# EAGLE library part KLEMME_2-3 (library e-klemmen)
Klemme 2 3
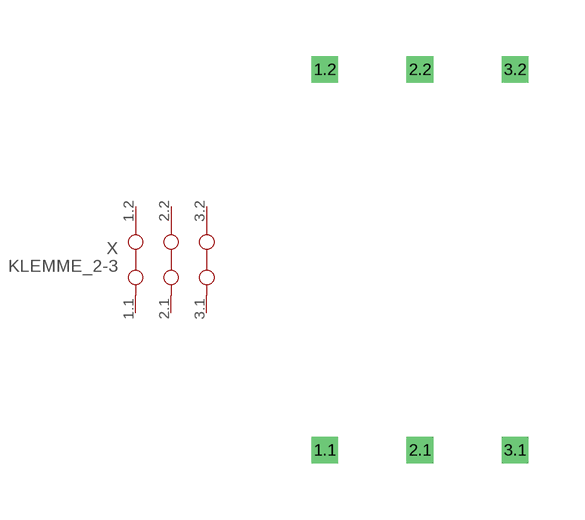
[diagram p0: symbol with the pads of KLEMME_2-3; footprint KLEMME_2-3]

Designator prefix X

## KLEMME_2-3  [KLEMME_2-3]
1.1  1.1  pas
1.2  1.2  pas
2.1  2.1  pas
2.2  2.2  pas
3.1  3.1  pas
3.2  3.2  pas

## Footprint KLEMME_2-3 (pad centres in mm)
Dummy
drill 0.2 pad 0.6 square: 1.1 -2.54,-5.08; 1.2 -2.54,5.08; 2.1 0,-5.08; 2.2 0,5.08; 3.1 2.54,-5.08; 3.2 2.54,5.08